# EAGLE library part X__STECKERLEISTE_10 (library ++Bedrahtet)
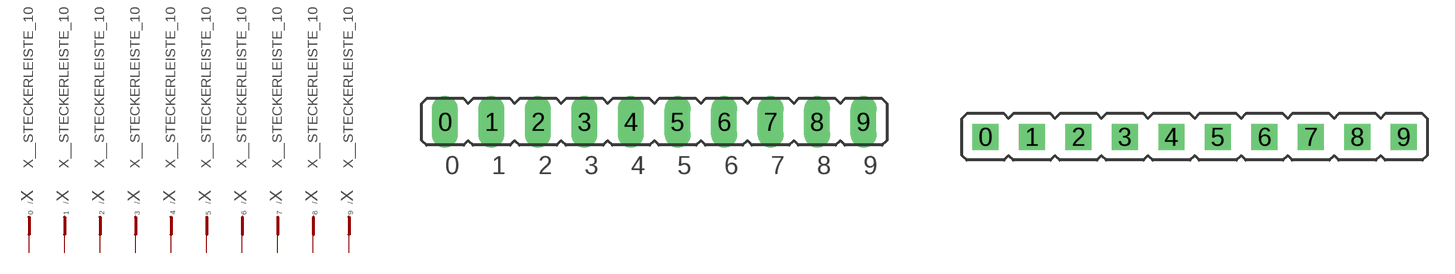
[diagram p3: symbol with the pads of STECKERLEISTE_10; footprints STECKERLEISTE_10, STECKL_10]

Designator prefix X; gates 0=STIFTPIN 1=STIFTPIN 2=STIFTPIN 3=STIFTPIN 4=STIFTPIN 5=STIFTPIN 6=STIFTPIN 7=STIFTPIN 8=STIFTPIN 9=STIFTPIN

## X__STECKERLEISTE_10  [STECKERLEISTE_10]
0  0:P
1  1:P
2  2:P
3  3:P
4  4:P
5  5:P
6  6:P
7  7:P
8  8:P
9  9:P

## X__STECKERLEISTE_10SQ  [STECKL_10]
Pads as for STECKERLEISTE_10

## Footprint STECKERLEISTE_10 (pad centres in mm)
drill 0.914 long: 0 0,0; 1 2.54,0; 2 5.08,0; 3 7.62,0; 4 10.16,0; 5 12.7,0; 6 15.24,0; 7 17.78,0; 8 20.32,0; 9 22.86,0

## Footprint STECKL_10 (pad centres in mm)
drill 0.914 square: 0 0,0; 1 2.54,0; 2 5.08,0; 3 7.62,0; 4 10.16,0; 5 12.7,0; 6 15.24,0; 7 17.78,0; 8 20.32,0; 9 22.86,0